# EAGLE library part CDCLVC1112 (library texas)
High-Performance Clock Buffer 3.3 V and 2.5 V LVCMOS
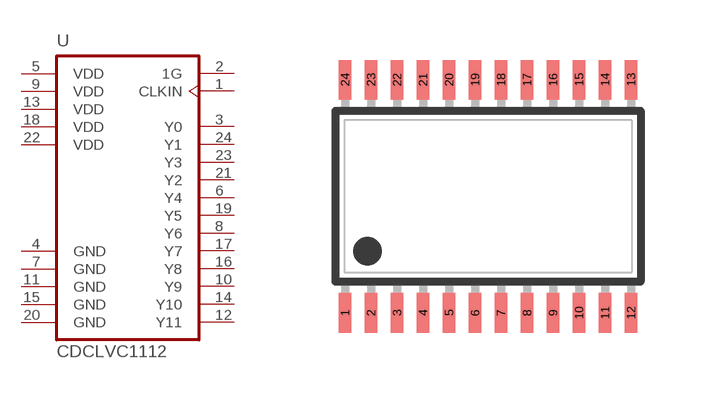
[diagram p46: symbol with the pads of TSSOP24; footprint TSSOP24]

Designator prefix U

## CDCLVC1112PW  [TSSOP24]
1  CLKIN  in
2  1G  in
3  Y0  out
4  GND  pwr
5  VDD  pwr
6  Y4  out
7  GND  pwr
8  Y6  out
9  VDD  pwr
10  Y9  out
11  GND  pwr
12  Y11  out
13  VDD  pwr
14  Y10  out
15  GND  pwr
16  Y8  out
17  Y7  out
18  VDD  pwr
19  Y5  out
20  GND  pwr
21  Y2  out
22  VDD  pwr
23  Y3  out
24  Y1  out

## Footprint TSSOP24 (pad centres in mm)
Thin Shrink Small Outline Plastic 24
smd 0.305 x 0.991: 1 -3.575,-2.918; 2 -2.925,-2.918; 3 -2.275,-2.918; 4 -1.625,-2.918; 5 -0.975,-2.918; 6 -0.325,-2.918; 7 0.325,-2.918; 8 0.975,-2.918; 9 1.625,-2.918; 10 2.275,-2.918; 11 2.925,-2.918; 12 3.575,-2.918; 13 3.575,2.918; 14 2.925,2.918; 15 2.275,2.918; 16 1.625,2.918; 17 0.975,2.918; 18 0.325,2.918; 19 -0.325,2.918; 20 -0.975,2.918; 21 -1.625,2.918; 22 -2.275,2.918; 23 -2.925,2.918; 24 -3.575,2.918